# EAGLE library part CHRG-BQ24085 (library eagleLib v2)
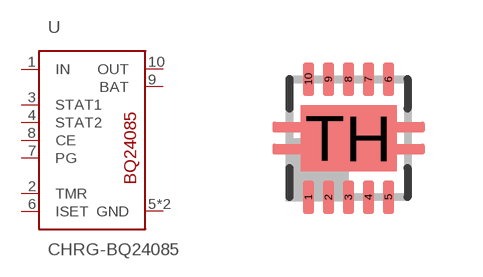
[diagram p14: symbol with the pads of DRC-S-PVSON-N10; footprint DRC-S-PVSON-N10]

Designator prefix -

## CHRG-BQ24085-DRC  [DRC-S-PVSON-N10]
1  IN
2  TMR
3  STAT1
4  STAT2
5  GND
6  ISET
7  PG
8  CE
9  BAT
10  OUT
TH  GND

## Footprint DRC-S-PVSON-N10 (pad centres in mm)
DRK (S-PDSO-N10) Source: www.ti.com .. bq27010.pdf changed 2011-11-09
smd 0.28 x 0.85: 1 -1,-1.475; 2 -0.5,-1.475; 3 0,-1.475; 4 0.5,-1.475; 5 1,-1.475; 6 1,1.475; 7 0.5,1.475; 8 0,1.475; 9 -0.5,1.475; 10 -1,1.475
smd 2.4 x 1.65: TH 0,0